# Altium schematic symbol library 25LC128.SchLib: 1 symbol
Pins are listed as number, name and electrical type; pins without a type are passive.

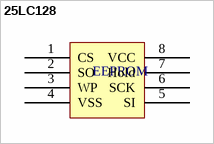
[diagram p0: symbol 25LC128]

## 25LC128
designator EEPROM  (value not drawn)
footprint 25LC128
pins: 1 CS, 2 SO, 3 WP, 4 VSS, 5 SI, 6 SCK, 7 Hold, 8 VCC